# Altium footprint library DCASE.PcbLib: 1 footprints
Each footprint in its own frame and in the unit in brackets; x right, y up, seen from the top. Pads: shape width x height; smd on the part's side, far side on the other; paste and mask are expansions set on the pad; w line width, h text height; cw(c..) or ccw(c..) is an arc to the next point about the centre after c.
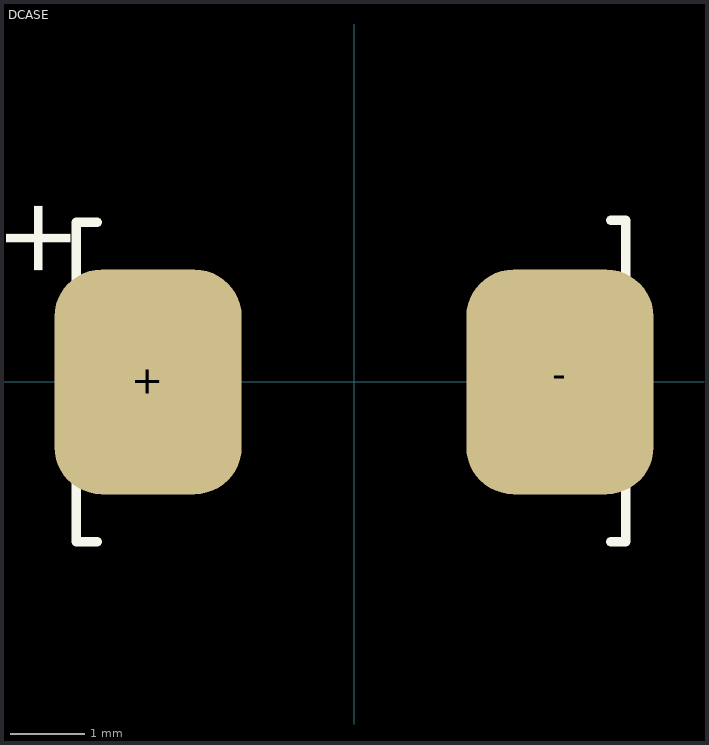
[diagram p0: the footprint, top view; thin cyan lines are the x and y axes]

## DCASE [mm]
pads (2):
  rrect50% 2.5x3 smd: +(-2.75,0) -(2.75,0)
Top Overlay:
  lines w0.127: -3.429,-2.134 -3.708,-2.134 -3.708,2.134 -3.429,2.134 ; 3.429,-2.134 3.632,-2.134 3.632,2.159 3.429,2.159
  text "+" at -3.785,1.346 h1
3D body: height 2.8, standoff 0, extent -3.65,-2.15 3.65,2.15